# Altium schematic symbol library ADG1604BRUZ.SchLib: 1 symbol
Pins are listed as number, name and electrical type; pins without a type are passive.

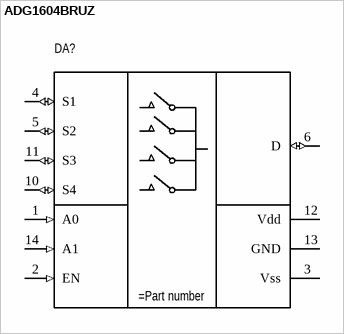
[diagram p0: symbol ADG1604BRUZ]

## ADG1604BRUZ
designator DA?
1 Ω Typical On Resistance, ±5 V, +12 V, +5 V, and +3.3 V, 4:1 Multiplexer
pins: 1 A0 (in), 2 EN (in), 3 Vss (power), 4 S1 (io), 5 S2 (io), 6 D (io), 10 S4 (io), 11 S3 (io), 12 Vdd (power), 13 GND (power), 14 A1 (in)